# EAGLE library part K202XHT-E9S-N (library MouserUseful)
D-Sub Standard Connectors Source: Datasheet
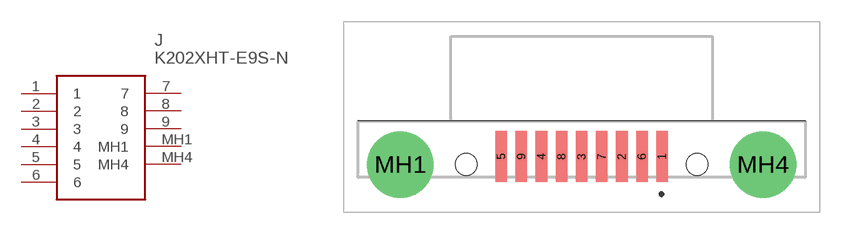
[diagram p3: symbol with the pads of K202XHTE9SN; footprint K202XHTE9SN]

Designator prefix J

## K202XHT-E9S-N (DESCRIPTION: D-Sub Standard Connectors; HEIGHT: 12.8mm; MANUFACTURER_NAME: Kycon; MANUFACTURER_PART_NUMBER: K202XHT-E9S-N; MOUSER_PART_NUMBER: 806-K202XHT-E9S-N; MOUSER_PRICE-STOCK: https://www.mouser.co.uk/ProductDetail/Kycon/K202XHT-E9S-N?qs=gotfk7Nc9iJUua3eLQY%2FyA%3D%3D)  [K202XHTE9SN]
1  1
2  2
3  3
4  4
5  5
6  6
7  7
8  8
9  9
MH1  MH1
MH4  MH4

## Footprint K202XHTE9SN (pad centres in mm)
K202XHT-E9S-N-2
smd 0.8 x 3.5: 1 5.54,-0.5; 2 2.77,-0.5; 3 0,-0.5; 4 -2.77,-0.5; 5 -5.54,-0.5; 6 4.155,-0.5; 7 1.385,-0.5; 8 -1.385,-0.5; 9 -4.155,-0.5
drill 3.05 pad 4.575: MH1 -12.495,-1.05; MH4 12.495,-1.05
hole 1.5 at -7.95,-1.05
hole 1.5 at 7.95,-1.05